# Altium footprint library Battery_Holders.PcbLib: 4 footprints
Each footprint in its own frame and in the unit in brackets; x right, y up, seen from the top. Pads: shape width x height; smd on the part's side, far side on the other; paste and mask are expansions set on the pad; w line width, h text height; cw(c..) or ccw(c..) is an arc to the next point about the centre after c.
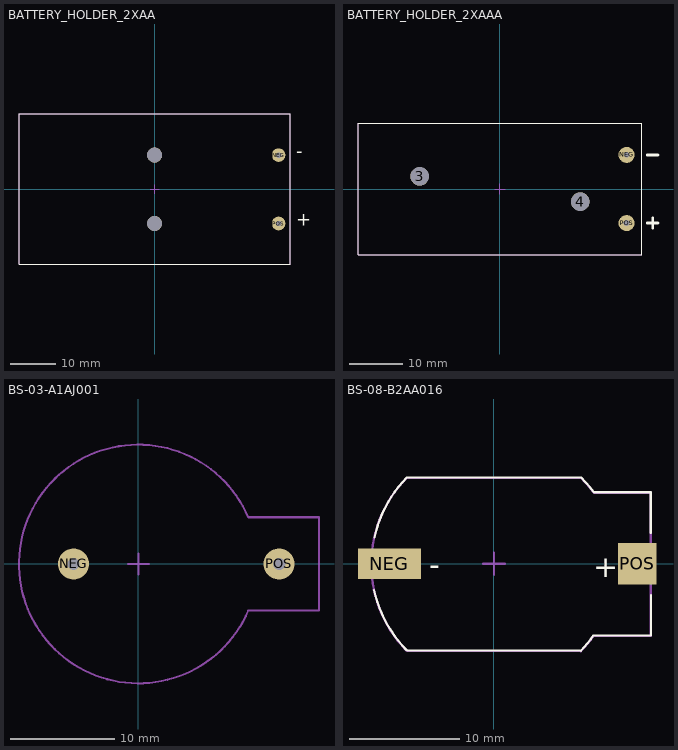
[diagram p0: the footprints below, top view; thin cyan lines are the x and y axes]

## BATTERY_HOLDER_2XAA [mm]
pads (4):
  round 3 hole 1.2 mask+0.15: NEG(27.15,7.481) POS(27.15,-7.509)
  round 3.3 hole 3.3 unplated mask+0.15: ""(-0.03,-7.509) ""(-0.03,7.481)
Top Overlay:
  lines w0.2: -29.77,-16.474 29.74,-16.474 29.74,16.586 -29.77,16.586 -29.77,-16.474
  text "+" at 31,-9 h5
  text "-" at 31,6 h5
Top Courtyard (Mech15):
  lines w0.2: -1,0 0,0 ; 0,-1 0,0 ; 0,1 0,0 ; 1,0 0,0 ; -29.77,-16.474 -29.77,16.586 29.74,16.586 29.74,-16.474 -29.77,-16.474
  text "'.Designator'" at -4.75,3.667 h1.25
3D body "2462.STEP": height 17.02, standoff -14.73, extent -29.756,-16.459 29.756,16.586

## BATTERY_HOLDER_2XAAA [mm]
pads (4):
  round 3.45 hole 3.45 unplated mask+0.15: 3(-14.985,2.35) 4(14.985,-2.35)
  round 3 hole 1.02 mask+0.15: NEG(23.625,6.35)
  round 3 hole 1.2 mask+0.15: POS(23.625,-6.35)
Top Overlay:
  lines w0.2: -26.49,-12.295 -26.49,12.295 26.49,12.295 26.49,-12.295 -26.49,-12.295
  lines w0.5: 27.5,-6.35 29.5,-6.35 ; 27.5,6.35 29.5,6.35 ; 28.5,-7.35 28.5,-5.35
Top Courtyard (Mech15):
  lines w0.2: -1,0 0,0 ; 0,-1 0,0 ; 0,1 0,0 ; 1,0 0,0 ; -26.49,-12.295 -26.49,12.295 26.49,12.295 26.49,-12.295 -26.49,-12.295
  text "'.Designator'" at -4.75,3.667 h1.25
3D body "2468.STEP": height 13, standoff -12.7, extent -26.49,-12.295 26.49,12.295

## BS-03-A1AJ001 [mm]
pads (2):
  round 3 hole 1.2 mask+0.15: NEG(-6.25,0) POS(13.55,0)
Top Courtyard (Mech15):
  lines w0.2: -1,0 0,0 ; 0,-1 0,0 ; 0,1 0,0 ; 1,0 0,0 ; 10.57,4.53 ccw(c0,-0.001) 10.584,-4.496 ; 10.6,-4.5 17.4,-4.5 17.4,4.5 10.6,4.5
  text "'.Designator'" at -6.75,3.667 h1.25
3D body "CR2032_Battery_Holder_TH.STEP": height 7.87, standoff -3.99, extent -10.165,-12.065 15.489,12.065

## BS-08-B2AA016 [mm]
pads (2):
  rect 5.7x2.8 smd mask+0.2: NEG(-9.5,0)
  rect 3.5x3.8 smd mask+0.2: POS(13,0)
Top Overlay:
  lines w0.2: -10.896,-2.369 ccw(c0,0) -7.934,-7.834 ; -10.861,2.385 cw(c0.034,0.016) -7.9,7.85 7.9,7.85 ; -7.9,-7.85 7.9,-7.9 ; 7.886,-7.886 ccw(c0,-0.003) 9.055,-6.509 ; 7.934,7.834 cw(c0,0) 9.039,6.528 ; 9.1,-6.5 14.275,-6.5 14.275,-2.825 ; 9.1,6.5 14.25,6.5 14.25,2.825
  text "-" at -5.875,-1.025 h2
  text "+" at 9,-1.208 h2
Top Courtyard (Mech15):
  lines w0.2: -7.934,-7.884 cw(c0,-0.05) -7.934,7.784 ; -7.9,-7.9 7.9,-7.95 ; -7.9,7.8 7.9,7.8 ; -1,0 0,0 ; 0,-1 0,0 ; 0,1 0,0 ; 1,0 0,0 ; 7.886,-7.936 ccw(c0,-0.053) 9.055,-6.559 ; 7.934,7.784 cw(c0,-0.05) 9.039,6.478 ; 9.1,-6.55 14.25,-6.55 14.25,6.45 9.1,6.45
  text "'.Designator'" at 0.25,0.667 h1.25
3D body "BS-08-B2AA016.stp": height 5.4, standoff 0, extent -11.15,-7.798 13.5,7.797